# Altium schematic symbol library AD8541.SchLib: 1 symbol
Pins are listed as number, name and electrical type; pins without a type are passive.

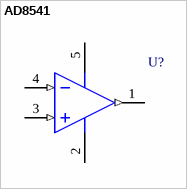
[diagram p0: symbol AD8541]

## AD8541
designator U?  (no BOM)
pins: 1 OUT (out), 2 -V, 3 IN+ (in), 4 IN- (in), 5 +V